# Altium schematic symbol library Misc.SchLib: 3 symbols
Pins are listed as number, name and electrical type; pins without a type are passive.

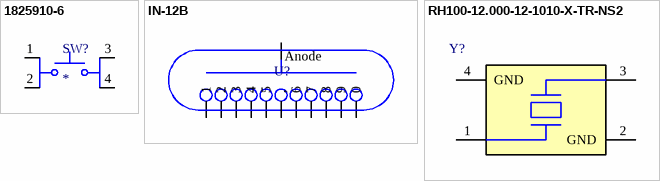
[diagram p0: symbols 1825910-6 to RH100-12.000-12-1010-X-TR-NS2]

## 1825910-6
designator SW?
Tactile Switch SPST-NO Top Actuated Through Hole
pins: 1, 2, 3, 4

## IN-12B
designator U?  (value not drawn)
IN-12B
footprint IN-12B (Russian Nixie Tube, hole sizes sized for generic amazon pins, not for direct tube soldering.)
pins: 1 Anode, 2 0, 3 9, 4 8, 5 7, 6, 7 5, 8 4, 9 3, 10 2, 11 1, 12 ,

## RH100-12.000-12-1010-X-TR-NS2
designator Y?  (value not drawn)
12 MHz ±10ppm Crystal 12pF 50 Ohms 4-SMD, No Lead
pins: 1, 2 GND, 3, 4 GND